# Altium footprint library 常用元件.PcbLib: 186 footprints (part 2 of 12)
Each footprint in its own frame and in the unit in brackets; x right, y up, seen from the top. Pads: shape width x height; smd on the part's side, far side on the other; paste and mask are expansions set on the pad; w line width, h text height; cw(c..) or ccw(c..) is an arc to the next point about the centre after c.
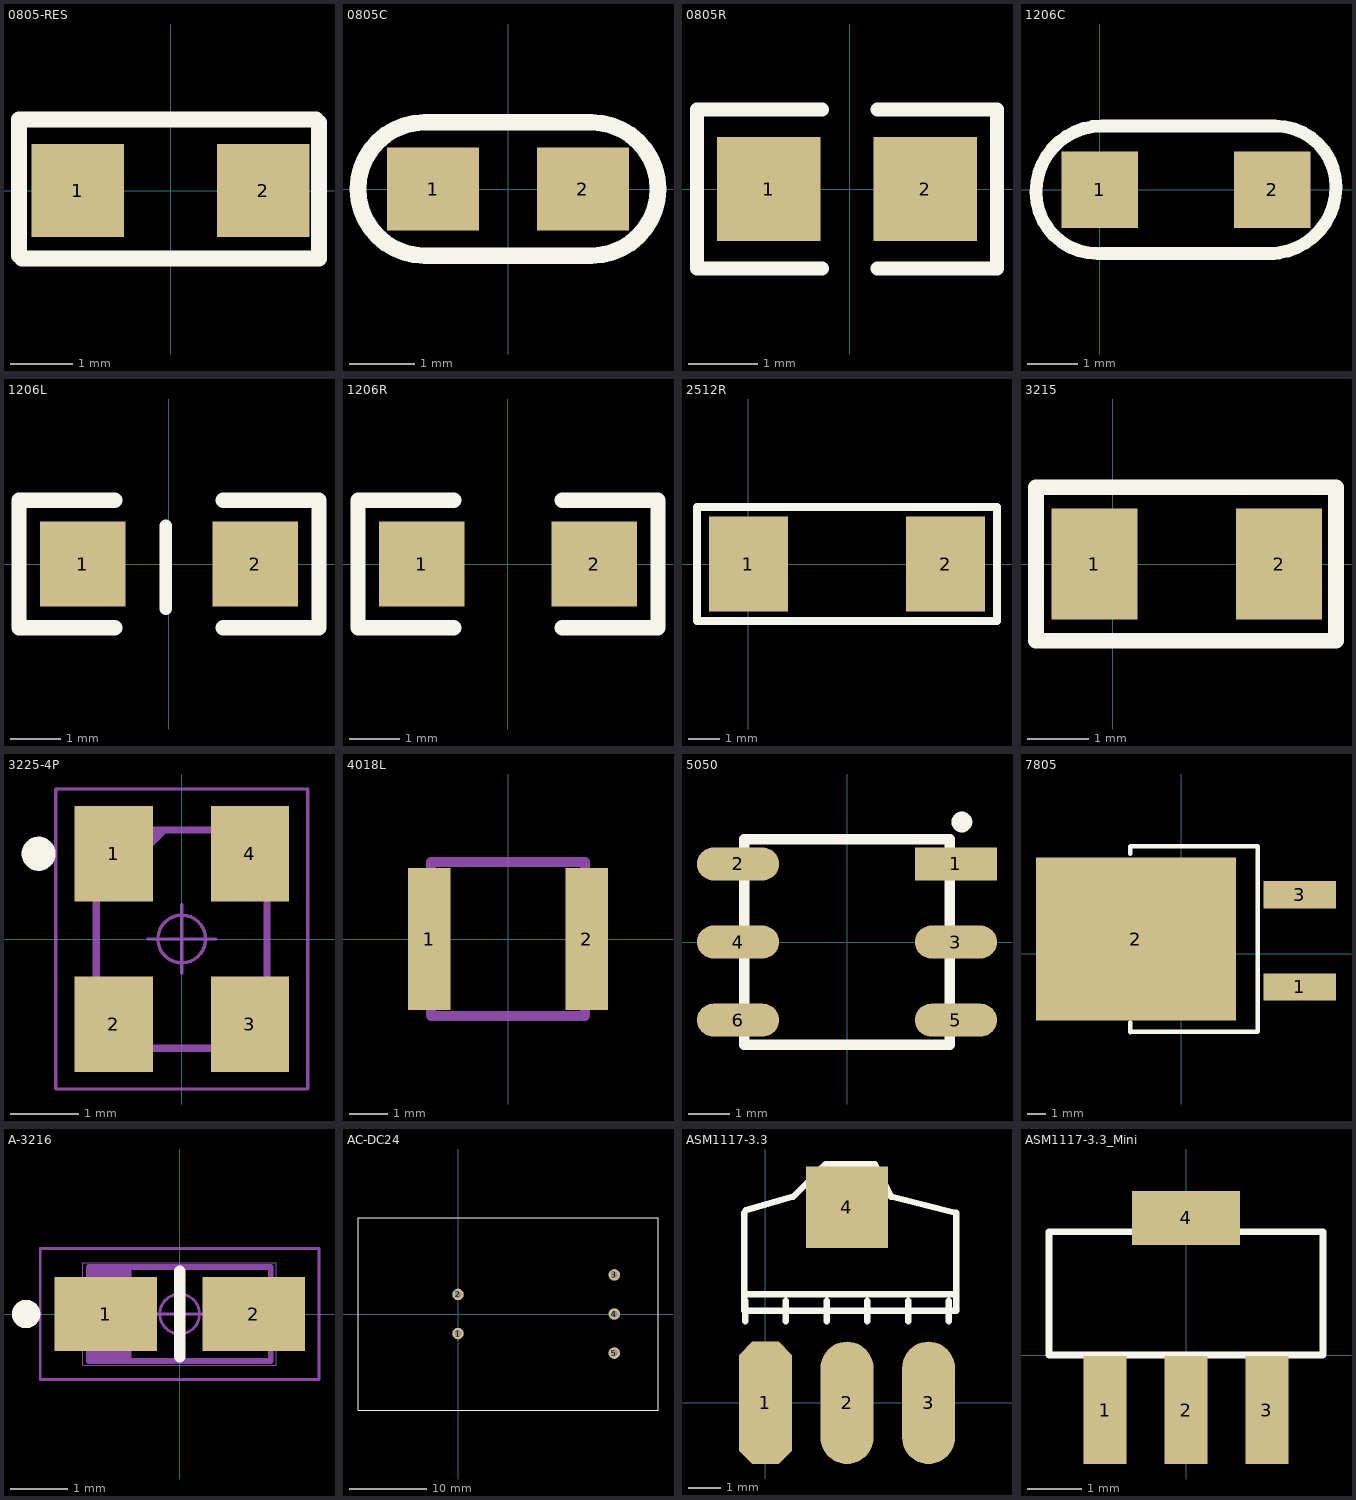
[diagram p1: the footprints below, top view; thin cyan lines are the x and y axes]

## 0805-RES [mm] "焊盘间距加长"
pads (2):
  rect 1.5x1.5 smd: 1(-1.5,0) 2(1.5,0)
Top Overlay:
  lines w0.254: -2.45,-1.05 -2.45,1.15 -2.21,1.15 2.35,1.15 2.4,1.1 2.4,-1.1 -2.4,-1.1 -2.45,-1.05
3D body: height 0.53, standoff -0.02, extent -1,-0.625 1,0.625

## 0805C [mil]
pads (2):
  rect 55x50 smd: 1(-45,0) 2(45,0)
Top Overlay:
  lines w10: -90,0 cw(c-50,0) -50,40 50,40 cw(c50,0) 90,0 cw(c50,0) 50,-40 -50,-40 cw(c-50,0) -90,0
3D body: height 19.68, standoff 0, extent -39.36,-24.6 39.38,24.61

## 0805R [mm]
pads (2):
  rect 1.5x1.5 smd: 1(-1.168,0) 2(1.092,0)
Top Overlay:
  lines w0.2: -0.4,-1.15 -2.21,-1.15 -2.21,1.15 -0.4,1.15 ; 0.4,-1.15 2.134,-1.15 2.134,1.15 0.4,1.15
3D body: height 0.53, standoff -0.02, extent -1.051,-0.625 0.949,0.625

## 1206C [mil]
pads (2):
  rect 60x60 smd: 1(0,0) 2(135,0)
Top Overlay:
  lines w10: 10,50 137.32,50 cw(c137.32,2.32) 185,2.32 cw(c132.68,2.32) 132.68,-50 -1.72,-50 ; 80,50 1.72,50 ccw(c1.72,-1.72) -50,-1.72 ccw(c-1.72,-1.72) -1.72,-50 ; 136.72,-50 -1.72,-50

## 1206L [mm]
pads (2):
  rect 1.7x1.7 smd: 1(-1.714,0) 2(1.715,0)
Top Overlay:
  lines w0.254: -0.063,-0.889 -0.063,0.762
  lines w0.305: -1.079,-1.27 -2.984,-1.27 -2.984,1.27 -1.079,1.27 ; 1.08,-1.27 2.985,-1.27 2.985,1.27 1.08,1.27

## 1206R [mm]
pads (2):
  rect 1.7x1.7 smd: 1(-1.714,0) 2(1.715,0)
Top Overlay:
  lines w0.305: -1.079,-1.27 -2.984,-1.27 -2.984,1.27 -1.079,1.27 ; 1.08,-1.27 2.985,-1.27 2.985,1.27 1.08,1.27

## 2512R [mil]
pads (2):
  rect 100x120 smd: 1(0,0) 2(250,0)
Top Overlay:
  lines w10: -65,-72 315,-72 315,72 -65,72 -65,0 -65,-72

## 3215 [mm]
pads (2):
  rect 1.4x1.8 smd: 1(-0.302,0) 2(2.7,0)
Top Overlay:
  lines w0.254: -1.25,-1.25 -1.25,1.25 3.625,1.25 3.625,-1.25 -1.25,-1.25

## 3225-4P [mm] "32MHz贴片晶振"
pads (4):
  rect 1.15x1.4 smd: 1(-1,1.25) 2(-1,-1.25) 3(1,-1.25) 4(1,1.25)
Top Overlay:
  circle w0.25: c-2.1,1.25 r0.125
Mechanical 15:
  lines w0.1: -1.25,0.6 -0.25,1.6 ; -1.25,0.7 -0.35,1.6 ; -1.25,0.8 -0.45,1.6 ; -1.25,0.9 -0.55,1.6 ; -1.25,1 -0.65,1.6 ; -1.25,1.1 -0.75,1.6 ; -1.25,1.2 -0.85,1.6 ; -1.25,1.3 -0.95,1.6 ; -1.25,1.4 -1.05,1.6 ; -1.25,1.5 -1.15,1.6 ; -1.25,-1.6 -1.25,1.6 1.25,1.6 1.25,-1.6 -1.25,-1.6
Mechanical 16:
  circle w0.05: c0,0 r0.35
  lines w0.001: -1.3,-1.65 -1.3,1.65 1.3,1.65 1.3,-1.65 -1.3,-1.65
  lines w0.05: -0.5,0 0.5,0 ; 0,-0.5 0,0.5 ; -1.85,-2.2 -1.85,2.2 1.85,2.2 1.85,-2.2 -1.85,-2.2

## 4018L [mm] "电感封装"
height 18
pads (2):
  rect 1.1x3.7 smd: 1(-2.05,0) 2(2.05,0)
Mechanical 15:
  lines w0.254: -2,-2 2,-2 2,2 -2,2 -2,-2

## 5050 [mm] "贴片LED灯"
pads (6):
  rect 2x0.8 smd: 1(2.65,1.9)
  oval 2x0.8 smd: 2(-2.65,1.9) 3(2.65,0) 4(-2.65,0) 5(2.65,-1.9) 6(-2.65,-1.9)
Top Overlay:
  circle w0.254: c2.794,2.921 r0.127
  lines w0.254: -2.5,-2.5 2.5,-2.5 2.5,2.5 -2.5,2.5 -2.5,-2.5
3D body: height 1.6, standoff 0, extent -2.65,-2.511 2.65,2.489

## 7805 [mm] "表贴7805"
pads (3):
  rect 4x1.5 smd: 1(6.52,-1.84) 3(6.52,3.24)
  rect 11x9 smd: 2(-2.5,0.8)
Top Overlay:
  lines w0.254: -2.8,-4.318 -2.8,-3.8 ; -2.8,5.5 -2.8,5.896 ; -2.785,-4.3 4.2,-4.3 ; -2.785,5.9 4.2,5.9 ; 4.209,-4.291 4.209,-2.892 4.209,4.423 4.209,5.891

## A-3216 [mm]
pads (2):
  rect 1.8x1.3 smd: 1(-1.3,0) 2(1.3,0)
Top Overlay:
  circle w0.25: c-2.7,0 r0.125
  lines w0.2: 0,-0.75 0,0.75
Mechanical 1:
  lines w0.1: -1.5,-0.825 -1.5,0.825 ; -1.4,-0.825 -1.4,0.825 ; -1.3,-0.825 -1.3,0.825 ; -1.2,-0.825 -1.2,0.825 ; -1.1,-0.825 -1.1,0.825 ; -1,-0.825 -1,0.825 ; -0.9,-0.825 -0.9,0.825 ; -1.6,-0.825 1.6,-0.825 1.6,0.825 -1.6,0.825 -1.6,-0.825
  text "C1" at 0.002,-0.375 h0.63
Mechanical 16:
  circle w0.05: c0,0 r0.35
  lines w0.001: -1.7,-0.9 1.7,-0.9 1.7,0.9 -1.7,0.9 -1.7,-0.9
  lines w0.05: -0.5,0 0.5,0 ; 0,-0.5 0,0.5 ; -2.45,-1.15 2.45,-1.15 2.45,1.15 -2.45,1.15 -2.45,-1.15

## AC-DC24 [mm]
pads (5):
  round 1.5 hole 0.9: 1(0,-2.54) 2(0,2.54) 3(20.32,5.08) 4(20.32,0) 5(20.32,-5.08)
Top Overlay:
  lines w0.127: -13,-12.5 -13,12.5 26,12.5 26,-12.5 -13,-12.5

## ASM1117-3.3 [mil]
pads (4):
  oct 65x150 smd: 1(0,0)
  oval 65x150 smd: 2(100,0) 3(200,0)
  rect 100x100 smd: 4(100,240)
Top Overlay:
  lines w7.87: -26,233 -26,133 ; -25,100 -25,125 ; -24.33,236.33 34,253 74,293 134,293 154,253 234,233 234,113 ; 25,100 25,125 ; 75,100 75,125 ; 125,100 125,125 ; 175,100 175,125 ; 225,100 225,125 ; -26,133 234,133 234,113 ; -26,133 -26,113 234,113
3D body: height 72.83, standoff -0.39, extent -27.95,-22.56 227.95,253

## ASM1117-3.3_Mini [mm] "小的ASM1117"
pads (4):
  rect 0.8x2 smd: 1(-1.5,-1.016) 2(0,-1.016) 3(1.5,-1.016)
  rect 2x1 smd: 4(0,2.54)
Top Overlay:
  lines w0.127: -2.54,0 2.54,0 2.54,2.286 -2.54,2.286 -2.54,0